# Altium footprint library STC89C52RC.PcbLib: 17 footprints (part 2 of 2)
Each footprint in its own frame and in the unit in brackets; x right, y up, seen from the top. Pads: shape width x height; smd on the part's side, far side on the other; paste and mask are expansions set on the pad; w line width, h text height; cw(c..) or ccw(c..) is an arc to the next point about the centre after c.
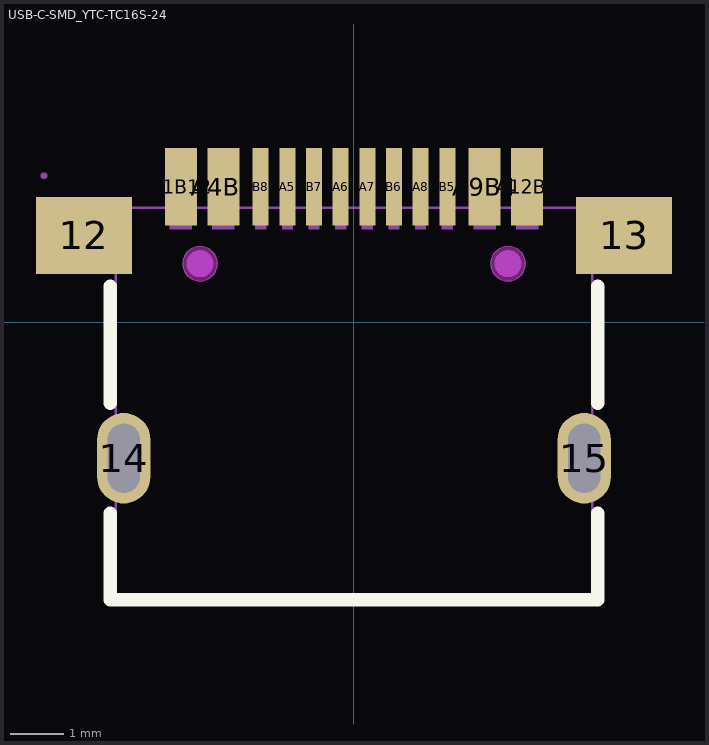
[diagram p1: the footprint, top view; thin cyan lines are the x and y axes]

## USB-C-SMD_YTC-TC16S-24 [mm]
pads (16):
  rect 1.8x1.45 smd paste-100 mask+0.05: 12(-5.07,1.633) 13(5.07,1.633)
  oval 1x1.7 hole 0.6 slot 1.3 at 90 deg paste+0 mask+0.05: 14(-4.32,-2.547) 15(4.32,-2.547)
  rect 0.6x1.45 smd paste-100 mask+0.05: A1B12(-3.25,2.547) A4B9(-2.45,2.547) A9B4(2.45,2.547) A12B1(3.25,2.547)
  rect 0.3x1.45 smd paste-100 mask+0.05: A5(-1.25,2.547) A6(-0.25,2.547) A7(0.25,2.547) A8(1.25,2.547) B5(1.75,2.547) B6(0.75,2.547) B7(-0.75,2.547) B8(-1.75,2.547)
Top Overlay:
  lines w0.254: -4.572,-3.584 -4.572,-5.207 4.572,-5.207 4.572,-3.584 ; -4.572,-1.511 -4.572,0.676 ; 4.572,-1.511 4.572,0.676
Top Paste:
  drawing of 16 lines, arcs and shapes, not listed
Keep-Out Layer:
  board cut-out: 3.215,1.102 3.215,1.167 3.166,1.287 3.074,1.378 2.955,1.427 2.825,1.427 2.706,1.378 2.615,1.287 2.565,1.167 2.565,1.102 2.565,1.038 2.615,0.918 2.706,0.827 2.825,0.777 2.955,0.777 3.074,0.827 3.166,0.918 3.215,1.038 3.215,1.102
  board cut-out: -2.565,1.102 -2.565,1.167 -2.614,1.286 -2.706,1.377 -2.825,1.427 -2.955,1.427 -3.074,1.377 -3.165,1.286 -3.215,1.167 -3.215,1.102 -3.215,1.037 -3.165,0.918 -3.074,0.826 -2.955,0.777 -2.825,0.777 -2.706,0.826 -2.614,0.918 -2.565,1.037 -2.565,1.102
Mechanical 1:
  circle w0.005: c2.89,1.102 r0.325
  circle w0.005: c-2.89,1.102 r0.325
Mechanical 6:
  circle w0.254: c2.89,1.102 r0.127
  circle w0.254: c-2.89,1.102 r0.127
Mechanical 15:
  region: -4.47,-2.147 -4.17,-2.147 -4.17,-2.947 -4.47,-2.947
  region: 4.17,-2.147 4.47,-2.147 4.47,-2.947 4.17,-2.947
  region: 4.32,2.153 5.82,2.153 5.82,1.103 4.32,1.103
  region: -5.82,2.153 -4.32,2.153 -4.32,1.103 -5.82,1.103
  region: -1.85,2.753 -1.65,2.753 -1.65,1.753 -1.85,1.753
  region: -1.35,2.753 -1.15,2.753 -1.15,1.753 -1.35,1.753
  region: -0.85,2.753 -0.65,2.753 -0.65,1.753 -0.85,1.753
  region: -0.35,2.753 -0.15,2.753 -0.15,1.753 -0.35,1.753
  region: 0.15,2.753 0.35,2.753 0.35,1.753 0.15,1.753
  region: 0.65,2.753 0.85,2.753 0.85,1.753 0.65,1.753
  region: 1.15,2.753 1.35,2.753 1.35,1.753 1.15,1.753
  region: 1.65,2.753 1.85,2.753 1.85,1.753 1.65,1.753
  region: -3.455,2.753 -3.045,2.753 -3.045,1.753 -3.455,1.753
  region: -2.655,2.753 -2.245,2.753 -2.245,1.753 -2.655,1.753
  region: 3.045,2.753 3.455,2.753 3.455,1.753 3.045,1.753
  region: 2.245,2.753 2.655,2.753 2.655,1.753 2.245,1.753
  region: -5.76,2.753 -5.76,2.778 -5.795,2.813 -5.845,2.813 -5.88,2.778 -5.88,2.753 -5.88,2.728 -5.845,2.693 -5.795,2.693 -5.76,2.728 -5.76,2.753
  lines w0.051: -4.47,-5.147 4.47,-5.147 4.47,2.153 -4.47,2.153 -4.47,-5.147